# Altium schematic symbol library Avago.SchLib: 1 symbol
Pins are listed as number, name and electrical type; pins without a type are passive.

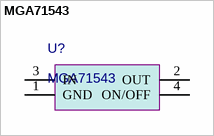
[diagram p0: symbol MGA71543]

## MGA71543
designator U?
Value: MGA71543
pins: 1 GND, 2 OUT, 3 IN, 4 ON/OFF